# Altium integrated library Transistors FET.IntLib: 10 symbols
Pins are listed as number, name and electrical type; pins without a type are passive.

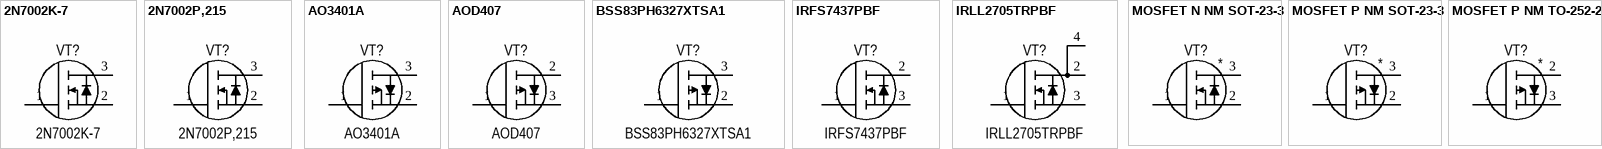
[diagram p0: symbols 2N7002K-7 to MOSFET P NM TO-252-2]

## 2N7002K-7
designator VT?
MOSFET N 0.38A 60V; Manufacturer: Diodes Incorporated; Group: Discrete; Drain current: 380mA; Gate-source voltage: ±20V; Power dissipation: 370mW; Drain-source on-resistance: 2 Ohm; FET type: N-Channel; Component: Transistor FET; Part name: 2N7002K-7; Package: SOT-23-3; Drain-source voltage: 60V; Height: 1.10mm; Dimension: 3.00mm x 2.60mm; Operating temperature: -55°C +150°C; Mounting type: Surface mount
footprint SOT-23-3N
footprint SOT-23-3L
pins: 1 Gate, 2 Source, 3 Drain

## 2N7002P,215
designator VT?
MOSFET N 0.36A 60V; Manufacturer: Nexperia; Group: Discrete; Drain current: 360mA; Gate-source voltage: ±20V; Power dissipation: 350mW; Drain-source on-resistance: 1.6 Ohm; FET type: N-Channel; Component: Transistor FET; Part name: 2N7002P,215; Package: SOT-23-3; Drain-source voltage: 60V; Height: 1.10mm; Dimension: 3.00mm x 2.60mm; Operating temperature: -55°C +150°C; Mounting type: Surface mount
footprint SOT-23-3N
footprint SOT-23-3L
pins: 1 Gate, 2 Source, 3 Drain

## AO3401A
designator VT?
MOSFET P 4A 30V; Manufacturer: Alpha & Omega Semiconductor; Group: Discrete; Gate-source voltage: ±12V; Power dissipation: 1.4W; Drain-source on-resistance: 50mOmh; FET type: P-Channel; Component: Transistor FET; Part name: AO3401A; Package: SOT-23-3; Drain-source voltage: 30V; Drain current: 4A; Height: 1.10mm; Dimension: 3.00mm x 2.60mm; Operating temperature: -55°C +150°C; Mounting type: Surface mount
footprint SOT-23-3N
footprint SOT-23-3L
pins: 1 Gate, 2 Source, 3 Drain

## AOD407
designator VT?
MOSFET P 12A 60V; Manufacturer: Alpha & Omega Semiconductor; Group: Discrete; Gate-source voltage: ±20V; Power dissipation: 2.5W; Drain-source on-resistance: 50mOmh; FET type: P-Channel; Component: Transistor FET; Part name: AOD407; Package: TO-252-2; Drain-source voltage: 60V; Drain current: 12A; Height: 2.40mm; Dimension: 10.40mm x 6.70mm; Operating temperature: -55°C +175°C; Mounting type: Surface mount
footprint TO-252-2
pins: 1 Gate, 2 Drain, 3 Source

## BSS83PH6327XTSA1
designator VT?
MOSFET P 0.33A 60V; Manufacturer: Infineon Technologies; Group: Discrete; Drain current: 360mA; Gate-source voltage: ±20V; Power dissipation: 330mW; Drain-source on-resistance: 1.6 Ohm; FET type: P-Channel; Component: Transistor FET; Part name: BSS83PH6327XTSA1; Package: SOT-23-3; Drain-source voltage: 60V; Height: 1.10mm; Dimension: 3.00mm x 2.60mm; Operating temperature: -55°C +150°C; Mounting type: Surface mount
footprint SOT-23-3N
footprint SOT-23-3L
pins: 1 Gate, 2 Source, 3 Drain

## IRFS7437PBF
designator VT?
MOSFET N 195A 40V; Manufacturer: ON Semiconductor; Group: Discrete; Gate-source voltage: ±20V; Power dissipation: 230W; Drain-source on-resistance: 1.8 Ohm; FET type: N-Channel; Component: Transistor FET; Part name: IRFS7437PBF; Package: TO-263-2; Drain-source voltage: 40V; Drain current: 195A; Height: 4.83mm; Dimension: 10.67mm x 15.88mm; Operating temperature: -55°C +155°C; Mounting type: Surface mount
footprint TO-263-2
pins: 1 Gate, 2 Drain, 3 Source

## IRLL2705TRPBF
designator VT?
MOSFET N 3.8A 55V; Manufacturer: Infineon Technologies; Group: Discrete; Gate-source voltage: ±16V; Power dissipation: 1W; Drain-source on-resistance: 40 mOhm; FET type: N-Channel; Component: Transistor FET; Part name: IRLL2705TRPBF; Package: SOT-223; Drain-source voltage: 55V; Drain current: 3.8A; Height: 1.80mm; Dimension: 6.70mm x 7.30mm; Operating temperature: -55°C +150°C; Mounting type: Surface mount
footprint SOT-223N
pins: 1 Gate, 2 Drain, 3 Source, 4 Drain

## MOSFET N NM SOT-23-3
designator VT?, comment NM  (value not drawn)  (no BOM)
MOSFET N NM SOT-23-3; Group: Discrete; FET type: N-Channel; Component: Transistor FET; Part name: NM; Package: SOT-23-3; Height: 1.10mm; Dimension: 3.00mm x 2.60mm; Mounting type: Surface mount
footprint SOT-23-3N NM
footprint SOT-23-3L NM
pins: 1 Gate, 2 Source, 3 Drain

## MOSFET P NM SOT-23-3
designator VT?, comment NM  (value not drawn)  (no BOM)
MOSFET P NM SOT-23-3; Group: Discrete; FET type: P-Channel; Component: Transistor FET; Part name: NM; Package: SOT-23-3; Height: 1.10mm; Dimension: 3.00mm x 2.60mm; Mounting type: Surface mount
footprint SOT-23-3N NM
footprint SOT-23-3L NM
pins: 1 Gate, 2 Source, 3 Drain

## MOSFET P NM TO-252-2
designator VT?, comment NM  (value not drawn)  (no BOM)
MOSFET P NM TO-252-2; Group: Discrete; FET type: P-Channel; Component: Transistor FET; Part name: NM; Package: TO-252-2; Height: 2.40mm; Dimension: 10.40mm x 6.70mm; Mounting type: Surface mount
footprint TO-252-2 NM
pins: 1 Gate, 2 Drain, 3 Source